# Altium footprint library WR-TBL_Rising Cage Clamp_5.00mm.PcbLib: 76 footprints (part 4 of 5)
Each footprint in its own frame and in the unit in brackets; x right, y up, seen from the top. Pads: shape width x height; smd on the part's side, far side on the other; paste and mask are expansions set on the pad; w line width, h text height; cw(c..) or ccw(c..) is an arc to the next point about the centre after c.
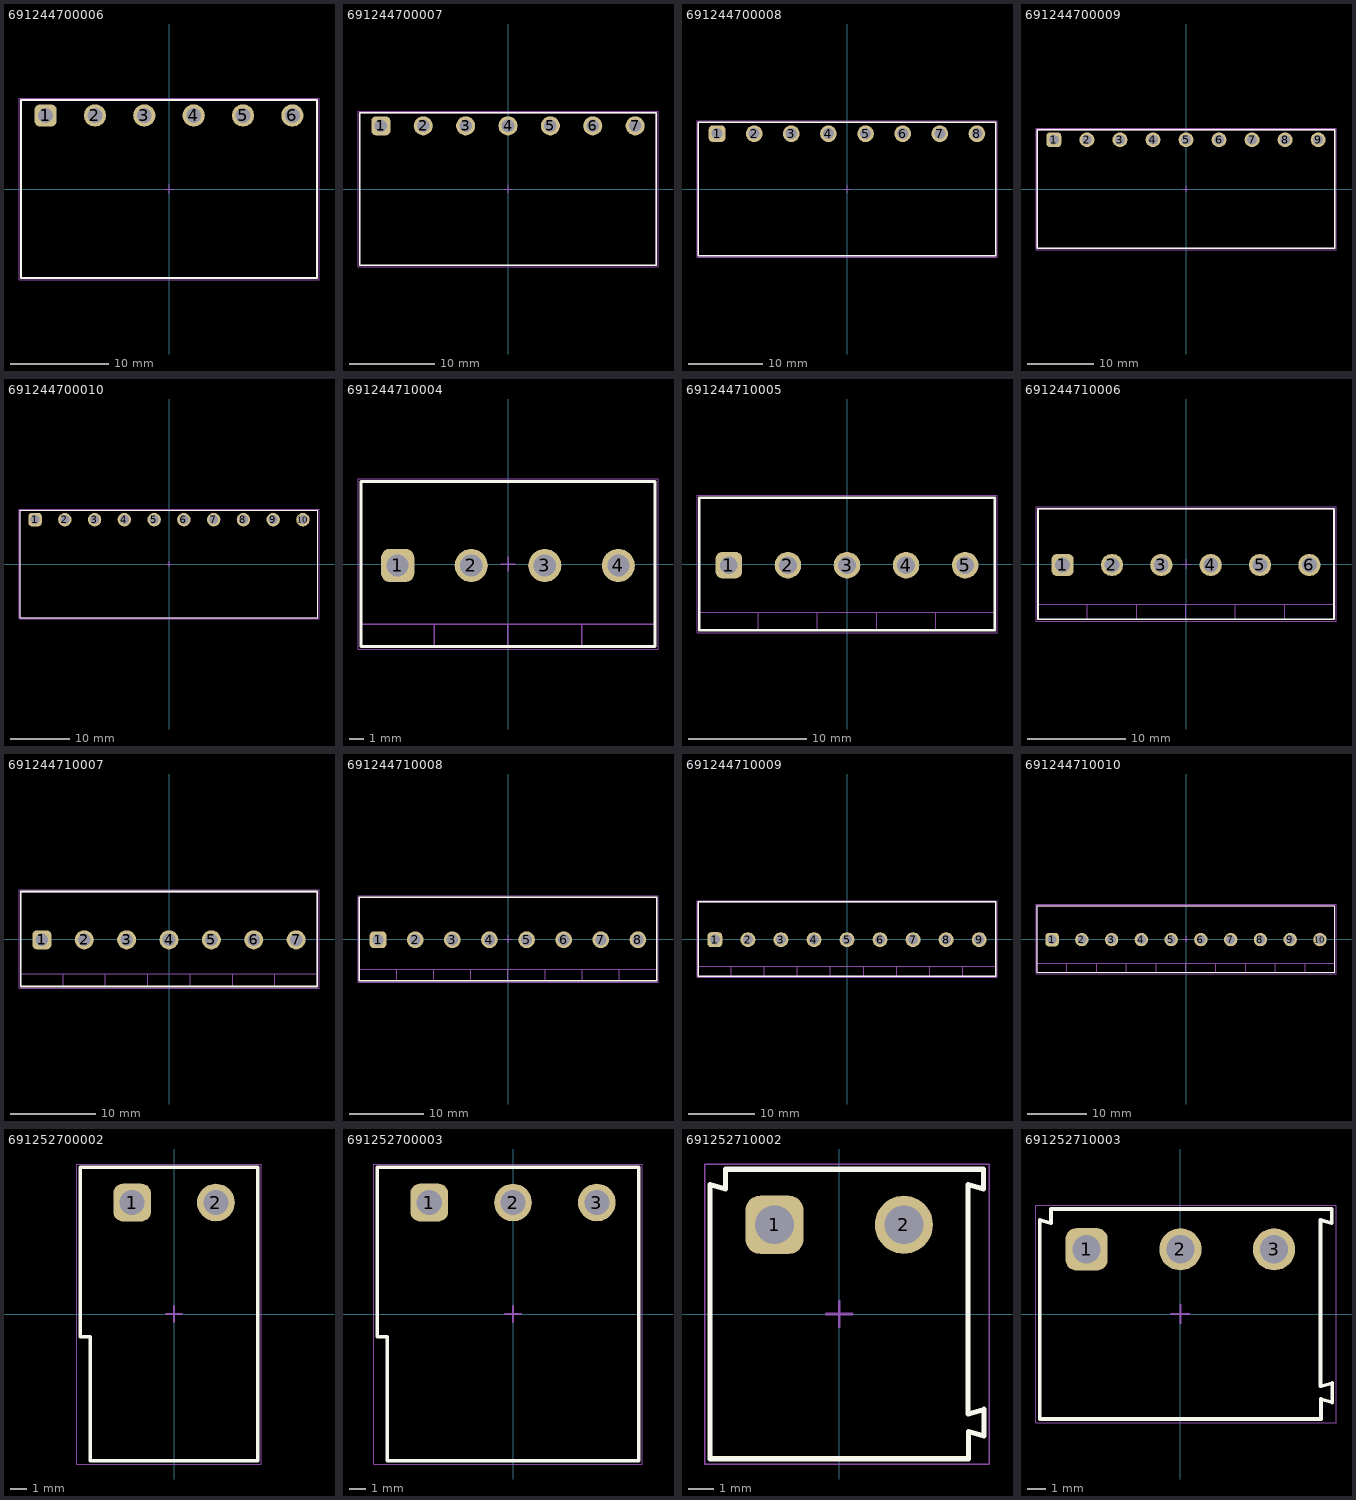
[diagram p3: the footprints below, top view; thin cyan lines are the x and y axes]

## 691244700006 [mm] "Serie 2447 - 5.00 mm _ 6 pins"
height 11.2
pads (6):
  rrect50% 2.25x2.25 hole 1.5: 1(-12.5,7.45)
  round 2.25 hole 1.5: 2(-7.5,7.45) 3(-2.5,7.45) 4(2.5,7.45) 5(7.5,7.45) 6(12.5,7.45)
Top Overlay:
  lines w0.2: -15,-9 -15,9 15,9 15,-9 -15,-9
Top Assembly:
  lines w0.1: -15,-9 15,-9 15,9 -15,9 -15,-9
Top Designator:
  text ".Designator" at -3.647,-0.357 h1
Top 3D Body:
  lines w0.1: -15,-9 -15,9 15,9 15,-9 -15,-9
Top Courtyard:
  lines w0.05: -15.2,-9.2 -15.2,9.2 15.2,9.2 15.2,-9.2 -15.2,-9.2
Top Component Center:
  lines w0.1: -0.5,0 0.5,0 ; 0,-0.5 0,0.5
3D body "691244700006.stp": height 11.3, standoff -3.9, extent -15,-9 15,9

## 691244700007 [mm] "Serie 2447 - 5.00 mm _ 7 pins"
height 11.2
pads (7):
  rrect50% 2.25x2.25 hole 1.5: 1(-15,7.45)
  round 2.25 hole 1.5: 2(-10,7.45) 3(-5,7.45) 4(0,7.45) 5(5,7.45) 6(10,7.45) 7(15,7.45)
Top Overlay:
  lines w0.2: -17.5,-9 -17.5,9 17.5,9 17.5,-9 -17.5,-9
Top Assembly:
  lines w0.1: -17.5,-9 17.5,-9 17.5,9 -17.5,9 -17.5,-9
Top Designator:
  text ".Designator" at -3.647,-0.357 h1
Top 3D Body:
  lines w0.1: -17.5,-9 -17.5,9 17.5,9 17.5,-9 -17.5,-9
Top Courtyard:
  lines w0.05: -17.7,-9.2 -17.7,9.2 17.7,9.2 17.7,-9.2 -17.7,-9.2
Top Component Center:
  lines w0.1: -0.5,0 0.5,0 ; 0,-0.5 0,0.5
3D body "691244700007.stp": height 11.3, standoff -3.9, extent -17.5,-9 17.5,9

## 691244700008 [mm] "Serie 2447 - 5.00 mm _ 8 pins"
height 11.2
pads (8):
  rrect50% 2.25x2.25 hole 1.5: 1(-17.5,7.45)
  round 2.25 hole 1.5: 2(-12.5,7.45) 3(-7.5,7.45) 4(-2.5,7.45) 5(2.5,7.45) 6(7.5,7.45) 7(12.5,7.45) 8(17.5,7.45)
Top Overlay:
  lines w0.2: -20,-9 -20,9 20,9 20,-9 -20,-9
Top Assembly:
  lines w0.1: -20,-9 20,-9 20,9 -20,9 -20,-9
Top Designator:
  text ".Designator" at -3.647,-0.357 h1
Top 3D Body:
  lines w0.1: -20,-9 -20,9 20,9 20,-9 -20,-9
Top Courtyard:
  lines w0.05: -20.2,-9.2 -20.2,9.2 20.2,9.2 20.2,-9.2 -20.2,-9.2
Top Component Center:
  lines w0.1: -0.5,0 0.5,0 ; 0,-0.5 0,0.5
3D body "691244700008.stp": height 11.3, standoff -3.9, extent -20,-9 20,9

## 691244700009 [mm] "Serie 2447 - 5.00 mm _ 9 pins"
height 11.2
pads (9):
  rrect50% 2.25x2.25 hole 1.5: 1(-20,7.45)
  round 2.25 hole 1.5: 2(-15,7.45) 3(-10,7.45) 4(-5,7.45) 5(0,7.45) 6(5,7.45) 7(10,7.45) 8(15,7.45) 9(20,7.45)
Top Overlay:
  lines w0.2: -22.5,-9 22.5,-9 22.5,9 -22.5,9 -22.5,-9
Top Assembly:
  lines w0.1: -22.5,-9 -22.5,9 22.5,9 22.5,-9 -22.5,-9
Top Designator:
  text ".Designator" at -3.647,-0.357 h1
Top 3D Body:
  lines w0.1: -22.5,-9 22.5,-9 22.5,9 -22.5,9 -22.5,-9
Top Courtyard:
  lines w0.05: -22.7,-9.2 22.7,-9.2 22.7,9.2 -22.7,9.2 -22.7,-9.2
Top Component Center:
  lines w0.1: -0.5,0 0.5,0 ; 0,-0.5 0,0.5
3D body "691244700009.stp": height 11.3, standoff -3.9, extent -22.5,-9 22.5,9

## 691244700010 [mm] "Serie 2447 - 5.00 mm _ 10 pins"
height 11.2
pads (10):
  rrect50% 2.25x2.25 hole 1.5: 1(-22.5,7.45)
  round 2.25 hole 1.5: 2(-17.5,7.45) 3(-12.5,7.45) 4(-7.5,7.45) 5(-2.5,7.45) 6(2.5,7.45) 7(7.5,7.45) 8(12.5,7.45) 9(17.5,7.45) 10(22.5,7.45)
Top Overlay:
  lines w0.2: -25,-9 25,-9 25,9 -25,9 -25,-9
Top Assembly:
  lines w0.1: -25,-9 -25,9 25,9 25,-9 -25,-9
Top Designator:
  text ".Designator" at -3.647,-0.357 h1
Top 3D Body:
  lines w0.1: -25,-9 25,-9 25,9 -25,9 -25,-9
Top Courtyard:
  lines w0.05: -25.2,-9.2 25.2,-9.2 25.2,9.2 -25.2,9.2 -25.2,-9.2
Top Component Center:
  lines w0.1: -0.5,0 0.5,0 ; 0,-0.5 0,0.5
3D body "691244700010.stp": height 11.3, standoff -3.9, extent -25,-9 25,9

## 691244710004 [mm] "Serie 2447 - 5.00 mm _ 4 pins"
height 18
pads (4):
  rrect50% 2.25x2.25 hole 1.5: 1(-7.5,-0.1)
  round 2.25 hole 1.5: 2(-2.5,-0.1) 3(2.5,-0.1) 4(7.5,-0.1)
Top Overlay:
  lines w0.2: -10,-5.6 -10,5.6 10,5.6 10,-5.6 -10,-5.6
Top Assembly:
  lines w0.1: -10,-4.1 10,-4.1 ; -5,-5.6 -5,-4.1 ; 0,-5.6 0,-4.1 ; 5,-5.6 5,-4.1 ; -10,-5.6 10,-5.6 10,5.6 -10,5.6 -10,-5.6
Top Designator:
  text ".Designator" at -3.647,-0.357 h1
Top 3D Body:
  lines w0.1: -10,-4.1 10,-4.1 ; -5,-5.6 -5,-4.1 ; 0,-5.6 0,-4.1 ; 5,-5.6 5,-4.1 ; -10,-5.6 -10,5.6 10,5.6 10,-5.6 -10,-5.6
Top Courtyard:
  lines w0.05: -10.2,-5.8 -10.2,5.8 10.2,5.8 10.2,-5.8 -10.2,-5.8
Top Component Center:
  lines w0.1: -0.5,0 0.5,0 ; 0,-0.5 0,0.5
3D body "691244710004.stp": height 18.05, standoff -3.95, extent -10,-5.6 10,5.6

## 691244710005 [mm] "Serie 2447 - 5.00 mm _ 5 pins"
height 18
pads (5):
  rrect50% 2.25x2.25 hole 1.5: 1(-10,-0.1)
  round 2.25 hole 1.5: 2(-5,-0.1) 3(0,-0.1) 4(5,-0.1) 5(10,-0.1)
Top Overlay:
  lines w0.2: -12.5,-5.6 12.5,-5.6 12.5,5.6 -12.5,5.6 -12.5,-5.6
Top Assembly:
  lines w0.1: -12.5,-4.1 12.5,-4.1 ; -7.5,-5.6 -7.5,-4.1 ; -2.5,-5.6 -2.5,-4.1 ; 2.5,-5.6 2.5,-4.1 ; 7.5,-5.6 7.5,-4.1 ; -12.5,-5.6 -12.5,5.6 12.5,5.6 12.5,-5.6 -12.5,-5.6
Top Designator:
  text ".Designator" at -3.647,-0.357 h1
Top 3D Body:
  lines w0.1: -12.5,-4.1 12.5,-4.1 ; -7.5,-5.6 -7.5,-4.1 ; -2.5,-5.6 -2.5,-4.1 ; 2.5,-5.6 2.5,-4.1 ; 7.5,-5.6 7.5,-4.1 ; -12.5,-5.6 12.5,-5.6 12.5,5.6 -12.5,5.6 -12.5,-5.6
Top Courtyard:
  lines w0.05: -12.7,-5.8 12.7,-5.8 12.7,5.8 -12.7,5.8 -12.7,-5.8
Top Component Center:
  lines w0.1: -0.5,0 0.5,0 ; 0,-0.5 0,0.5
3D body "691244710005.stp": height 18.05, standoff -3.95, extent -12.5,-5.6 12.5,5.6

## 691244710006 [mm] "Serie 2447 - 5.00 mm _ 6 pins"
height 18
pads (6):
  rrect50% 2.25x2.25 hole 1.5: 1(-12.5,-0.1)
  round 2.25 hole 1.5: 2(-7.5,-0.1) 3(-2.5,-0.1) 4(2.5,-0.1) 5(7.5,-0.1) 6(12.5,-0.1)
Top Overlay:
  lines w0.2: -15,-5.6 15,-5.6 15,5.6 -15,5.6 -15,-5.6
Top Assembly:
  lines w0.1: -15,-4.1 15,-4.1 ; -10,-5.6 -10,-4.1 ; -5,-5.6 -5,-4.1 ; 0,-5.6 0,-4.1 ; 5,-5.6 5,-4.1 ; 10,-5.6 10,-4.1 ; -15,-5.6 -15,5.6 15,5.6 15,-5.6 -15,-5.6
Top Designator:
  text ".Designator" at -3.647,-0.357 h1
Top 3D Body:
  lines w0.1: -15,-4.1 15,-4.1 ; -10,-5.6 -10,-4.1 ; -5,-5.6 -5,-4.1 ; 0,-5.6 0,-4.1 ; 5,-5.6 5,-4.1 ; 10,-5.6 10,-4.1 ; -15,-5.6 15,-5.6 15,5.6 -15,5.6 -15,-5.6
Top Courtyard:
  lines w0.05: -15.2,-5.8 15.2,-5.8 15.2,5.8 -15.2,5.8 -15.2,-5.8
Top Component Center:
  lines w0.1: -0.5,0 0.5,0 ; 0,-0.5 0,0.5
3D body "691244710006.stp": height 18.05, standoff -3.95, extent -15,-5.6 15,5.6

## 691244710007 [mm] "Serie 2447 - 5.00 mm _ 7 pins"
height 18
pads (7):
  rrect50% 2.25x2.25 hole 1.5: 1(-15,-0.1)
  round 2.25 hole 1.5: 2(-10,-0.1) 3(-5,-0.1) 4(0,-0.1) 5(5,-0.1) 6(10,-0.1) 7(15,-0.1)
Top Overlay:
  lines w0.2: -17.5,-5.6 17.5,-5.6 17.5,5.6 -17.5,5.6 -17.5,-5.6
Top Assembly:
  lines w0.1: -17.5,-4.1 17.5,-4.1 ; -12.5,-5.6 -12.5,-4.1 ; -7.5,-5.6 -7.5,-4.1 ; -2.5,-5.6 -2.5,-4.1 ; 2.5,-5.6 2.5,-4.1 ; 7.5,-5.6 7.5,-4.1 ; 12.5,-5.6 12.5,-4.1 ; -17.5,-5.6 -17.5,5.6 17.5,5.6 17.5,-5.6 -17.5,-5.6
Top Designator:
  text ".Designator" at -3.647,-0.357 h1
Top 3D Body:
  lines w0.1: -17.5,-4.1 17.5,-4.1 ; -12.5,-5.6 -12.5,-4.1 ; -7.5,-5.6 -7.5,-4.1 ; -2.5,-5.6 -2.5,-4.1 ; 2.5,-5.6 2.5,-4.1 ; 7.5,-5.6 7.5,-4.1 ; 12.5,-5.6 12.5,-4.1 ; -17.5,-5.6 17.5,-5.6 17.5,5.6 -17.5,5.6 -17.5,-5.6
Top Courtyard:
  lines w0.05: -17.7,-5.8 17.7,-5.8 17.7,5.8 -17.7,5.8 -17.7,-5.8
Top Component Center:
  lines w0.1: -0.5,0 0.5,0 ; 0,-0.5 0,0.5
3D body "691244710007.stp": height 18.05, standoff -3.95, extent -17.5,-5.6 17.5,5.6

## 691244710008 [mm] "Serie 2447 - 5.00 mm _ 8 pins"
height 18
pads (8):
  rrect50% 2.25x2.25 hole 1.5: 1(-17.5,-0.1)
  round 2.25 hole 1.5: 2(-12.5,-0.1) 3(-7.5,-0.1) 4(-2.5,-0.1) 5(2.5,-0.1) 6(7.5,-0.1) 7(12.5,-0.1) 8(17.5,-0.1)
Top Overlay:
  lines w0.2: -20,-5.6 20,-5.6 20,5.6 -20,5.6 -20,-5.6
Top Assembly:
  lines w0.1: -20,-4.1 20,-4.1 ; -15,-5.6 -15,-4.1 ; -10,-5.6 -10,-4.1 ; -5,-5.6 -5,-4.1 ; 0,-5.6 0,-4.1 ; 5,-5.6 5,-4.1 ; 10,-5.6 10,-4.1 ; 15,-5.6 15,-4.1 ; -20,-5.6 -20,5.6 20,5.6 20,-5.6 -20,-5.6
Top Designator:
  text ".Designator" at -3.647,-0.357 h1
Top 3D Body:
  lines w0.1: -20,-4.1 20,-4.1 ; -15,-5.6 -15,-4.1 ; -10,-5.6 -10,-4.1 ; -5,-5.6 -5,-4.1 ; 0,-5.6 0,-4.1 ; 5,-5.6 5,-4.1 ; 10,-5.6 10,-4.1 ; 15,-5.6 15,-4.1 ; -20,-5.6 20,-5.6 20,5.6 -20,5.6 -20,-5.6
Top Courtyard:
  lines w0.05: -20.2,-5.8 20.2,-5.8 20.2,5.8 -20.2,5.8 -20.2,-5.8
Top Component Center:
  lines w0.1: -0.5,0 0.5,0 ; 0,-0.5 0,0.5
3D body "691244710008.stp": height 18.05, standoff -3.95, extent -20,-5.6 20,5.6

## 691244710009 [mm] "Serie 2447 - 5.00 mm _ 9 pins"
height 18
pads (9):
  rrect50% 2.25x2.25 hole 1.5: 1(-20,-0.1)
  round 2.25 hole 1.5: 2(-15,-0.1) 3(-10,-0.1) 4(-5,-0.1) 5(0,-0.1) 6(5,-0.1) 7(10,-0.1) 8(15,-0.1) 9(20,-0.1)
Top Overlay:
  lines w0.2: -22.5,-5.6 22.5,-5.6 22.5,5.6 -22.5,5.6 -22.5,-5.6
Top Assembly:
  lines w0.1: -22.5,-4.1 22.5,-4.1 ; -17.5,-5.6 -17.5,-4.1 ; -12.5,-5.6 -12.5,-4.1 ; -7.5,-5.6 -7.5,-4.1 ; -2.5,-5.6 -2.5,-4.1 ; 2.5,-5.6 2.5,-4.1 ; 7.5,-5.6 7.5,-4.1 ; 12.5,-5.6 12.5,-4.1 ; 17.5,-5.6 17.5,-4.1 ; -22.5,-5.6 -22.5,5.6 22.5,5.6 22.5,-5.6 -22.5,-5.6
Top Designator:
  text ".Designator" at -3.647,-0.357 h1
Top 3D Body:
  lines w0.1: -22.5,-4.1 22.5,-4.1 ; -17.5,-5.6 -17.5,-4.1 ; -12.5,-5.6 -12.5,-4.1 ; -7.5,-5.6 -7.5,-4.1 ; -2.5,-5.6 -2.5,-4.1 ; 2.5,-5.6 2.5,-4.1 ; 7.5,-5.6 7.5,-4.1 ; 12.5,-5.6 12.5,-4.1 ; 17.5,-5.6 17.5,-4.1 ; -22.5,-5.6 22.5,-5.6 22.5,5.6 -22.5,5.6 -22.5,-5.6
Top Courtyard:
  lines w0.05: -22.7,-5.8 22.7,-5.8 22.7,5.8 -22.7,5.8 -22.7,-5.8
Top Component Center:
  lines w0.1: -0.5,0 0.5,0 ; 0,-0.5 0,0.5
3D body "691244710009.stp": height 18.05, standoff -3.95, extent -22.5,-5.6 22.5,5.6

## 691244710010 [mm] "Serie 2447 - 5.00 mm _ 10 pins"
height 18
pads (10):
  rrect50% 2.25x2.25 hole 1.5: 1(-22.5,-0.1)
  round 2.25 hole 1.5: 2(-17.5,-0.1) 3(-12.5,-0.1) 4(-7.5,-0.1) 5(-2.5,-0.1) 6(2.5,-0.1) 7(7.5,-0.1) 8(12.5,-0.1) 9(17.5,-0.1) 10(22.5,-0.1)
Top Overlay:
  lines w0.2: -25,-5.6 25,-5.6 25,5.6 -25,5.6 -25,-5.6
Top Assembly:
  lines w0.1: -25,-4.1 25,-4.1 ; -20,-5.6 -20,-4.1 ; -15,-5.6 -15,-4.1 ; -10,-5.6 -10,-4.1 ; -5,-5.6 -5,-4.1 ; 0,-5.6 0,-4.1 ; 5,-5.6 5,-4.1 ; 10,-5.6 10,-4.1 ; 15,-5.6 15,-4.1 ; 20,-5.6 20,-4.1 ; -25,-5.6 -25,5.6 25,5.6 25,-5.6 -25,-5.6
Top Designator:
  text ".Designator" at -3.647,-0.357 h1
Top 3D Body:
  lines w0.1: -25,-4.1 25,-4.1 ; -20,-5.6 -20,-4.1 ; -15,-5.6 -15,-4.1 ; -10,-5.6 -10,-4.1 ; -5,-5.6 -5,-4.1 ; 0,-5.6 0,-4.1 ; 5,-5.6 5,-4.1 ; 10,-5.6 10,-4.1 ; 15,-5.6 15,-4.1 ; 20,-5.6 20,-4.1 ; -25,-5.6 25,-5.6 25,5.6 -25,5.6 -25,-5.6
Top Courtyard:
  lines w0.05: -25.2,-5.8 25.2,-5.8 25.2,5.8 -25.2,5.8 -25.2,-5.8
Top Component Center:
  lines w0.1: -0.5,0 0.5,0 ; 0,-0.5 0,0.5
3D body "691244710010.stp": height 18.05, standoff -3.95, extent -25,-5.6 25,5.6

## 691252700002 [mm] "Serie 2527 - 5.00 mm _ 2 pins"
height 16
pads (2):
  rrect50% 2.25x2.25 hole 1.5: 1(-2.5,6.65)
  round 2.25 hole 1.5: 2(2.5,6.65)
Top Overlay:
  lines w0.2: -5.6,-1.35 -5.6,8.75 5,8.75 5,-8.75 -5,-8.75 -5,-1.35 -5.6,-1.35
Top Assembly:
  lines w0.1: -5.6,-1.35 -5,-1.35 -5,-8.75 5,-8.75 5,8.75 -5.6,8.75 -5.6,-1.35
Top Designator:
  text ".Designator" at -3.647,-0.357 h1
Top 3D Body:
  lines w0.1: -5.6,-1.35 -5.6,8.75 5,8.75 5,-8.75 -5,-8.75 -5,-1.35 -5.6,-1.35
Top Courtyard:
  lines w0.05: -5.8,-8.95 -5.8,8.95 5.2,8.95 5.2,-8.95 -5.8,-8.95
Top Component Center:
  lines w0.1: -0.5,0 0.5,0 ; 0,-0.5 0,0.5
3D body "691252700002.stp": height 16.05, standoff -2.95, extent -5.6,-8.75 5,8.75

## 691252700003 [mm] "Serie 2527 - 5.00 mm _ 3 pins"
height 16
pads (3):
  rrect50% 2.25x2.25 hole 1.5: 1(-5,6.65)
  round 2.25 hole 1.5: 2(0,6.65) 3(5,6.65)
Top Overlay:
  lines w0.2: -8.1,-1.35 -8.1,8.75 7.5,8.75 7.5,-8.75 -7.5,-8.75 -7.5,-1.35 -8.1,-1.35
Top Assembly:
  lines w0.1: -8.1,-1.35 -7.5,-1.35 -7.5,-8.75 7.5,-8.75 7.5,8.75 -8.1,8.75 -8.1,-1.35
Top Designator:
  text ".Designator" at -3.647,-0.357 h1
Top 3D Body:
  lines w0.1: -8.1,-1.35 -8.1,8.75 7.5,8.75 7.5,-8.75 -7.5,-8.75 -7.5,-1.35 -8.1,-1.35
Top Courtyard:
  lines w0.05: -8.3,-8.95 -8.3,8.95 7.7,8.95 7.7,-8.95 -8.3,-8.95
Top Component Center:
  lines w0.1: -0.5,0 0.5,0 ; 0,-0.5 0,0.5
3D body "691252700003.stp": height 16.05, standoff -2.95, extent -8.1,-8.75 7.5,8.75

## 691252710002 [mm] "Serie 2527 - 5.00 mm _ 2 pins"
height 17.5
pads (2):
  rrect50% 2.25x2.25 hole 1.5: 1(-2.5,3.45)
  round 2.25 hole 1.5: 2(2.5,3.45)
Top Overlay:
  lines w0.2: 4.98,-3.86 4.98,5.01 5.58,4.84 5.58,5.6 -4.4,5.6 -4.4,4.84 -5,5.01 -5,-5.6 5,-5.6 5,-4.54 5.6,-4.715 5.6,-3.685 5,-3.86
Top Assembly:
  lines w0.1: 4.98,-3.86 4.98,5.01 5.58,4.84 5.58,5.6 -4.4,5.6 -4.4,4.84 -5,5.01 -5,-5.6 5,-5.6 5,-4.54 5.6,-4.715 5.6,-3.685 5,-3.86
Top Designator:
  text ".Designator" at -3.647,-0.357 h1
Top 3D Body:
  lines w0.1: 4.98,-3.86 4.98,5.01 5.58,4.84 5.58,5.6 -4.4,5.6 -4.4,4.84 -5,5.01 -5,-5.6 5,-5.6 5,-4.54 5.6,-4.715 5.6,-3.685 5,-3.86
Top Courtyard:
  lines w0.05: -5.2,-5.8 5.8,-5.8 5.8,5.8 -5.2,5.8 -5.2,-5.8
Top Component Center:
  lines w0.1: -0.5,0 0.5,0 ; 0,-0.5 0,0.5
3D body "691252710002.stp": height 17.6, standoff -2.9, extent -5.02,-5.6 5.58,5.6

## 691252710003 [mm] "Serie 2527 - 5.00 mm _ 3 pins"
height 17.5
pads (3):
  rrect50% 2.25x2.25 hole 1.5: 1(-5,3.45)
  round 2.25 hole 1.5: 2(0,3.45) 3(5,3.45)
Top Overlay:
  lines w0.2: 7.48,-3.86 7.48,5.01 8.08,4.84 8.08,5.6 -6.9,5.6 -6.9,4.84 -7.5,5.01 -7.5,-5.6 7.5,-5.6 7.5,-4.54 8.1,-4.715 8.1,-3.685 7.5,-3.86
Top Assembly:
  lines w0.1: 7.48,-3.86 7.48,5.01 8.08,4.84 8.08,5.6 -6.9,5.6 -6.9,4.84 -7.5,5.01 -7.5,-5.6 7.5,-5.6 7.5,-4.54 8.1,-4.715 8.1,-3.685 7.5,-3.86
Top Designator:
  text ".Designator" at -3.647,-0.357 h1
Top 3D Body:
  lines w0.1: 7.48,-3.86 7.48,5.01 8.08,4.84 8.08,5.6 -6.9,5.6 -6.9,4.84 -7.5,5.01 -7.5,-5.6 7.5,-5.6 7.5,-4.54 8.1,-4.715 8.1,-3.685 7.5,-3.86
Top Courtyard:
  lines w0.05: -7.7,-5.8 -7.7,5.8 8.3,5.8 8.3,-5.8 -7.7,-5.8
Top Component Center:
  lines w0.1: -0.5,0 0.5,0 ; 0,-0.5 0,0.5
3D body "691252710003.stp": height 17.6, standoff -2.9, extent -7.52,-5.6 8.08,5.6